# EAGLE library part BUCK-CONVERTER-LM25011 (library FlashPCB_ICs)
LM25011/A - IC REG BUCK ADJUSTABLE 2A 10MSOP Technical Specifications: Step Down Switching Regulator Integrated 2-A N-Channel Buck Switch Input Voltage: 6V~42V Precision: 2% Feedback Reference Component Search: LM25011 <https://www.flashpcb.com/components> Datasheet: LM25011, LM25011-Q1, LM25011A, LM25011A-Q1 42-V 2-A Constant On-Time Switching Regulator With Adjustable Current Limit datasheet (Rev. H) <https://www.ti.com/lit/ds/symlink/lm25011.pdf?HQS=dis-dk-null-digikeymode-dsf-pf-null-wwe&ts=1682534971400&ref_url=https%253A%252F%252Fwww.ti.com%252Fgeneral%252Fdocs%252Fsuppproductinfo.tsp%253FdistId%253D10%2526gotoUrl%253Dhttps%253A%252F%252Fwww.ti.com%252Flit%252Fgpn%252Flm25011>
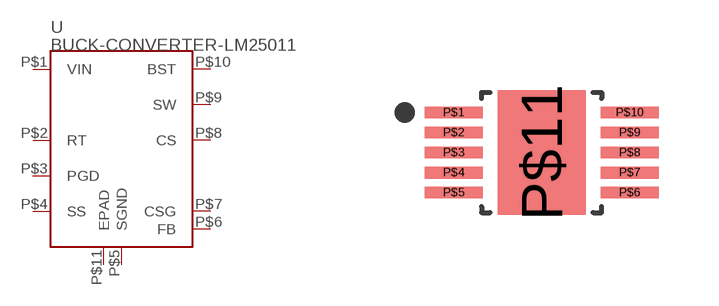
[diagram p32: symbol with the pads of 10-HVSSOP; footprint 10-HVSSOP]

Designator prefix U

## BUCK-CONVERTER-LM25011  [10-HVSSOP]
P$1  VIN
P$2  RT
P$3  PGD
P$4  SS
P$5  SGND
P$6  FB
P$7  CSG
P$8  CS
P$9  SW
P$10  BST
P$11  EPAD

## Footprint 10-HVSSOP (pad centres in mm)
smd 1.45 x 0.3: P$1 -2.2,1; P$2 -2.2,0.5; P$3 -2.2,0; P$4 -2.2,-0.5; P$5 -2.2,-1; P$6 2.2,-1; P$7 2.2,-0.5; P$8 2.2,0; P$9 2.2,0.5; P$10 2.2,1
smd 2.2 x 3.1: P$11 0,0